# EAGLE library part PINHD-2X9 (library SinclairScientific)
PIN HEADER
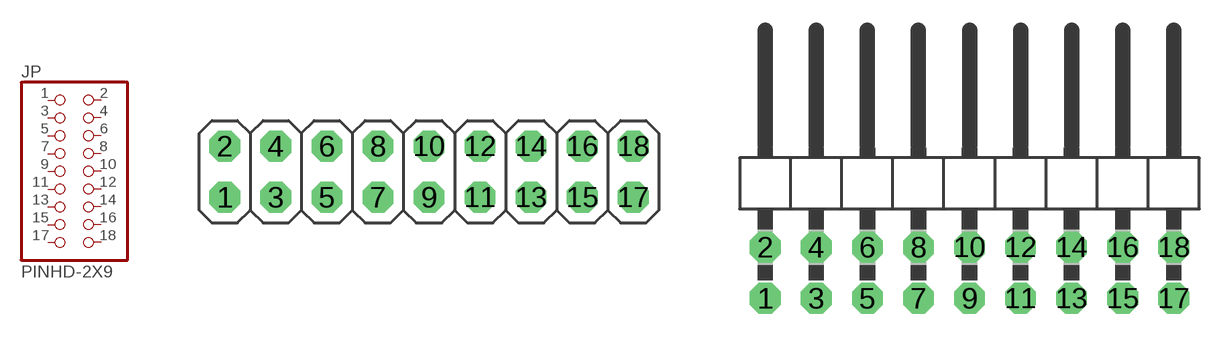
[diagram p7: symbol with the pads of 2X09; footprints 2X09, 2X09/90]

Designator prefix JP

## PINHD-2X9  [2X09]
1  1  pas
2  2  pas
3  3  pas
4  4  pas
5  5  pas
6  6  pas
7  7  pas
8  8  pas
9  9  pas
10  10  pas
11  11  pas
12  12  pas
13  13  pas
14  14  pas
15  15  pas
16  16  pas
17  17  pas
18  18  pas

## PINHD-2X9/90  [2X09/90]
Pads as for 2X09

## PINHD-2X9-2MM-SMD  [2X09-2MM-SMD]
Pads as for 2X09

## PINHD-2X9-2MM  [2X09-2MM]
Pads as for 2X09

## Footprint 2X09 (pad centres in mm)
PIN HEADER
drill 1.016 octagon: 1 -10.16,-1.27; 2 -10.16,1.27; 3 -7.62,-1.27; 4 -7.62,1.27; 5 -5.08,-1.27; 6 -5.08,1.27; 7 -2.54,-1.27; 8 -2.54,1.27; 9 0,-1.27; 10 0,1.27; 11 2.54,-1.27; 12 2.54,1.27; 13 5.08,-1.27; 14 5.08,1.27; 15 7.62,-1.27; 16 7.62,1.27; 17 10.16,-1.27; 18 10.16,1.27

## Footprint 2X09/90 (pad centres in mm)
PIN HEADER
drill 1.016 octagon: 1 -10.16,-6.35; 2 -10.16,-3.81; 3 -7.62,-6.35; 4 -7.62,-3.81; 5 -5.08,-6.35; 6 -5.08,-3.81; 7 -2.54,-6.35; 8 -2.54,-3.81; 9 0,-6.35; 10 0,-3.81; 11 2.54,-6.35; 12 2.54,-3.81; 13 5.08,-6.35; 14 5.08,-3.81; 15 7.62,-6.35; 16 7.62,-3.81; 17 10.16,-6.35; 18 10.16,-3.81

## Footprint 2X09-2MM-SMD (pad centres in mm)
PIN HEADER
smd 1 x 2.5: 1 -8,-2.13; 2 -8,2.13; 3 -6,-2.13; 4 -6,2.13; 5 -4,-2.13; 6 -4,2.13; 7 -2,-2.13; 8 -2,2.13; 9 0,-2.13; 10 0,2.13; 11 2,-2.13; 12 2,2.13; 13 4,-2.13; 14 4,2.13; 15 6,-2.13; 16 6,2.13; 17 8,-2.13; 18 8,2.13
hole 0.9 at -7,0
hole 0.9 at 7,0

## Footprint 2X09-2MM (pad centres in mm)
PIN HEADER
drill 0.75 octagon: 1 -8,-1; 2 -8,1; 3 -6,-1; 4 -6,1; 5 -4,-1; 6 -4,1; 7 -2,-1; 8 -2,1; 9 0,-1; 10 0,1; 11 2,-1; 12 2,1; 13 4,-1; 14 4,1; 15 6,-1; 16 6,1; 17 8,-1; 18 8,1